# Altium schematic symbol library abracon-ARJ11G-MBSE.Schlib: 1 symbol
Pins are listed as number, name and electrical type; pins without a type are passive.

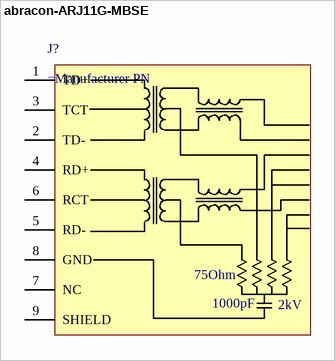
[diagram p0: symbol abracon-ARJ11G-MBSE]

## abracon-ARJ11G-MBSE
designator J?
Abracon Mag Jack ARJ11G-MBSE
pins: 1 TD+, 2 TD-, 3 TCT, 4 RD+, 5 RD-, 6 RCT, 7 NC, 8 GND, 9 SHIELD
text: 75Ohm; 1000pF; 2kV